# Altium schematic symbol library C1608X5R1A226M080AC.SchLib: 1 symbol
Pins are listed as number, name and electrical type; pins without a type are passive.

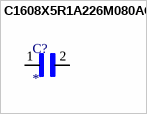
[diagram p0: symbol C1608X5R1A226M080AC]

## C1608X5R1A226M080AC
designator C?
22ÂµF Â±20% 10V Ceramic Capacitor X5R 0603 (1608 Metric); MF: {'manufacturer': u'TDK'}; MP: C1608X5R1A226M080AC; Value: *; Price: None; Availability: Unavailable; Package: None
footprint CAPC1608X100N
pins: 1, 2